# Altium footprint library PH2.0.PcbLib: 41 footprints (part 2 of 3)
Each footprint in its own frame and in the unit in brackets; x right, y up, seen from the top. Pads: shape width x height; smd on the part's side, far side on the other; paste and mask are expansions set on the pad; w line width, h text height; cw(c..) or ccw(c..) is an arc to the next point about the centre after c.
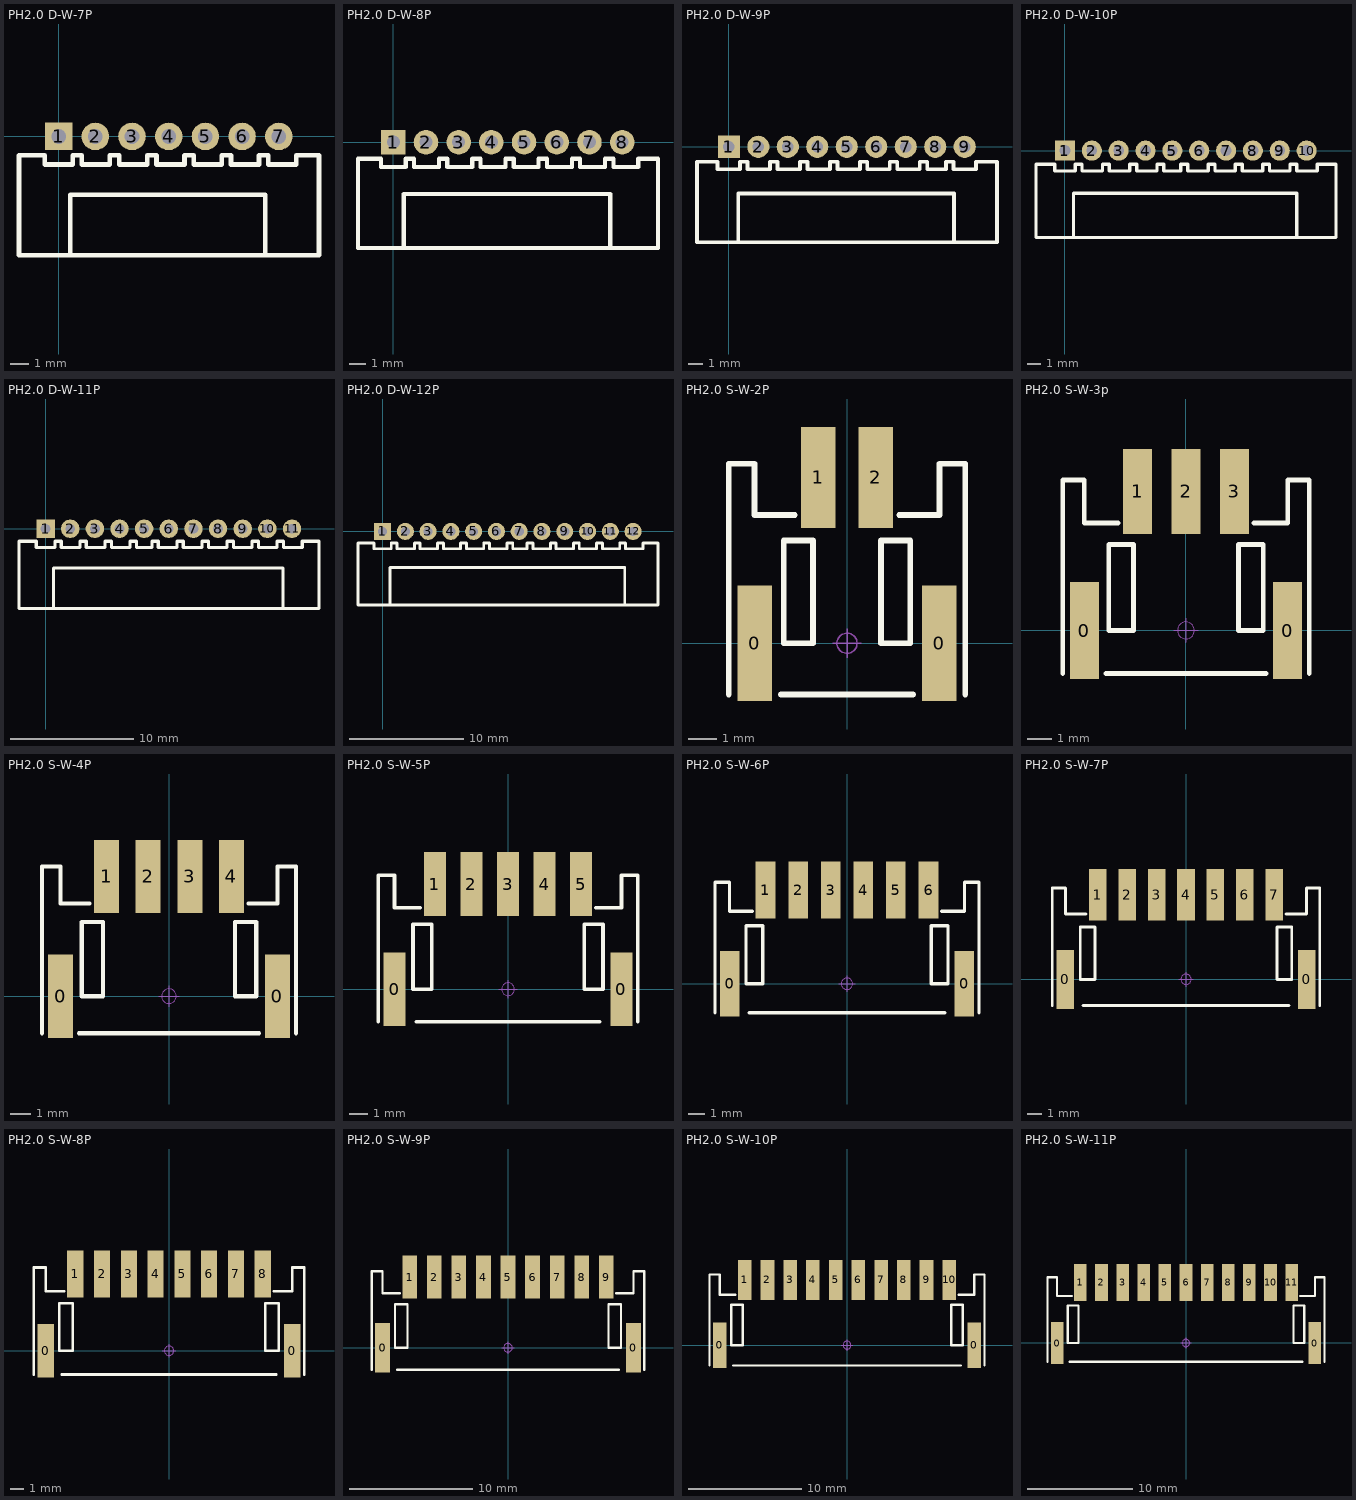
[diagram p1: the footprints below, top view; thin cyan lines are the x and y axes]

## PH2.0 D-W-7P [mm] "接插件/1A"
height 10
pads (7):
  rect 1.5x1.5 hole 0.8: 1(0,0)
  round 1.5 hole 0.8: 2(2,0) 3(4,0) 4(6,0) 5(8,0) 6(10,0) 7(12,0)
Top Overlay:
  lines w0.254: 3.27,-6.477 14.191,-6.477 14.191,-1.016 12.954,-1.016 12.954,-1.524 11.43,-1.524 11.43,-1.016 10.922,-1.016 10.922,-1.524 9.398,-1.524 9.398,-1.016 8.89,-1.016 8.89,-1.524 7.366,-1.524 7.366,-1.016 6.858,-1.016 6.858,-1.524 6.604,-1.524 5.334,-1.524 5.334,-1.016 4.826,-1.016 4.826,-1.524 3.302,-1.524 3.302,-1.016 2.794,-1.016 2.794,-1.524 1.27,-1.524 1.27,-1.016 0.762,-1.016 0.762,-1.524 -0.762,-1.524 -0.762,-1.016 -2.159,-1.016 -2.159,-6.477 0.635,-6.477 ; 0.635,-6.477 11.27,-6.477 11.27,-3.175 0.635,-3.175 0.635,-6.477
3D body: height 4.72, standoff -2.68, extent -1.95,-6.3 13.95,0.3

## PH2.0 D-W-8P [mm] "接插件/1A"
height 10
pads (8):
  rect 1.5x1.5 hole 0.8: 1(0,0)
  round 1.5 hole 0.8: 2(2,0) 3(4,0) 4(6,0) 5(8,0) 6(10,0) 7(12,0) 8(14,0)
Top Overlay:
  lines w0.254: 3.27,-6.477 16.191,-6.477 16.191,-1.016 14.986,-1.016 14.986,-1.524 13.462,-1.524 13.462,-1.016 12.954,-1.016 12.954,-1.524 11.43,-1.524 11.43,-1.016 10.922,-1.016 10.922,-1.524 9.398,-1.524 9.398,-1.016 8.89,-1.016 8.89,-1.524 7.366,-1.524 7.366,-1.016 6.858,-1.016 6.858,-1.524 5.334,-1.524 5.334,-1.016 4.826,-1.016 4.826,-1.524 3.302,-1.524 3.302,-1.016 2.794,-1.016 2.794,-1.524 1.27,-1.524 1.27,-1.016 0.762,-1.016 0.762,-1.524 -0.762,-1.524 -0.762,-1.016 -2.159,-1.016 -2.159,-6.477 0.635,-6.477 ; 11.27,-6.477 0.635,-6.477 ; 13.27,-6.477 13.27,-3.175 0.635,-3.175 0.635,-6.477
3D body: height 4.72, standoff -2.68, extent -1.95,-6.3 15.95,0.3

## PH2.0 D-W-9P [mm] "接插件/1A"
height 10
pads (9):
  rect 1.5x1.5 hole 0.8: 1(0,0)
  round 1.5 hole 0.8: 2(2,0) 3(4,0) 4(6,0) 5(8,0) 6(10,0) 7(12,0) 8(14,0) 9(16,0)
Top Overlay:
  lines w0.254: 3.27,-6.477 18.191,-6.477 18.191,-1.016 16.764,-1.016 16.764,-1.524 15.24,-1.524 15.24,-1.016 14.732,-1.016 14.732,-1.524 13.462,-1.524 13.462,-1.016 12.954,-1.016 12.954,-1.524 12.7,-1.524 11.43,-1.524 11.43,-1.016 10.922,-1.016 10.922,-1.524 9.398,-1.524 9.398,-1.016 8.89,-1.016 8.89,-1.524 7.366,-1.524 7.366,-1.016 6.858,-1.016 6.858,-1.524 5.334,-1.524 5.334,-1.016 4.826,-1.016 4.826,-1.524 3.302,-1.524 3.302,-1.016 2.794,-1.016 2.794,-1.524 1.27,-1.524 1.27,-1.016 0.762,-1.016 0.762,-1.524 -0.762,-1.524 -0.762,-1.016 -2.159,-1.016 -2.159,-6.477 0.635,-6.477 ; 11.27,-6.477 0.635,-6.477 ; 15.27,-6.477 15.27,-3.175 0.635,-3.175 0.635,-6.477
3D body: height 4.72, standoff -2.68, extent -1.95,-6.3 17.95,0.3

## PH2.0 D-W-10P [mm] "接插件/1A"
height 10
pads (10):
  rect 1.5x1.5 hole 0.8: 1(0,0)
  round 1.5 hole 0.8: 2(2,0) 3(4,0) 4(6,0) 5(8,0) 6(10,0) 7(12,0) 8(14,0) 9(16,0) 10(18,0)
Top Overlay:
  lines w0.254: 3.27,-6.477 20.191,-6.477 20.191,-1.016 18.796,-1.016 18.796,-1.524 17.272,-1.524 17.272,-1.016 16.764,-1.016 16.764,-1.524 15.24,-1.524 15.24,-1.016 14.732,-1.016 14.732,-1.524 13.208,-1.524 13.208,-1.016 12.7,-1.016 12.7,-1.524 11.176,-1.524 11.176,-1.016 10.668,-1.016 10.668,-1.524 9.144,-1.524 9.144,-1.016 8.636,-1.016 8.636,-1.524 7.366,-1.524 7.366,-1.016 6.858,-1.016 6.858,-1.524 5.334,-1.524 5.334,-1.016 4.826,-1.016 4.826,-1.524 3.302,-1.524 3.302,-1.016 2.794,-1.016 2.794,-1.524 1.27,-1.524 1.27,-1.016 0.762,-1.016 0.762,-1.524 -0.762,-1.524 -0.762,-1.016 -2.159,-1.016 -2.159,-6.477 0.635,-6.477 ; 11.27,-6.477 0.635,-6.477 ; 17.27,-6.477 17.27,-3.175 0.635,-3.175 0.635,-6.477
3D body: height 4.72, standoff -2.68, extent -1.95,-6.3 19.95,0.3

## PH2.0 D-W-11P [mm] "接插件/1A"
height 10
pads (11):
  rect 1.5x1.5 hole 0.8: 1(0,0)
  round 1.5 hole 0.8: 2(2,0) 3(4,0) 4(6,0) 5(8,0) 6(10,0) 7(12,0) 8(14,0) 9(16,0) 10(18,0) 11(20,0)
Top Overlay:
  lines w0.254: 3.27,-6.477 22.191,-6.477 22.191,-1.016 20.828,-1.016 20.828,-1.524 19.304,-1.524 19.304,-1.016 18.796,-1.016 18.796,-1.524 17.272,-1.524 17.272,-1.016 16.764,-1.016 16.764,-1.524 15.24,-1.524 15.24,-1.016 14.732,-1.016 14.732,-1.524 13.208,-1.524 13.208,-1.016 12.7,-1.016 12.7,-1.524 11.176,-1.524 11.176,-1.016 10.668,-1.016 10.668,-1.524 9.144,-1.524 9.144,-1.016 8.636,-1.016 8.636,-1.524 7.366,-1.524 7.366,-1.016 6.858,-1.016 6.858,-1.524 5.334,-1.524 5.334,-1.016 4.826,-1.016 4.826,-1.524 3.302,-1.524 3.302,-1.016 2.794,-1.016 2.794,-1.524 1.27,-1.524 1.27,-1.016 0.762,-1.016 0.762,-1.524 -0.762,-1.524 -0.762,-1.016 -2.159,-1.016 -2.159,-6.477 0.635,-6.477 ; 11.27,-6.477 0.635,-6.477 ; 19.27,-6.477 19.27,-3.175 0.635,-3.175 0.635,-6.477
3D body: height 4.72, standoff -2.68, extent -1.95,-6.3 21.95,0.3

## PH2.0 D-W-12P [mm] "接插件/1A"
height 10
pads (12):
  rect 1.5x1.5 hole 0.8: 1(0,0)
  round 1.5 hole 0.8: 2(2,0) 3(4,0) 4(6,0) 5(8,0) 6(10,0) 7(12,0) 8(14,0) 9(16,0) 10(18,0) 11(20,0) 12(22,0)
Top Overlay:
  lines w0.254: 3.27,-6.477 24.191,-6.477 24.191,-1.016 22.86,-1.016 22.86,-1.524 21.336,-1.524 21.336,-1.016 20.828,-1.016 20.828,-1.524 19.304,-1.524 19.304,-1.016 18.796,-1.016 18.796,-1.524 17.272,-1.524 17.272,-1.016 16.764,-1.016 16.764,-1.524 15.24,-1.524 15.24,-1.016 14.732,-1.016 14.732,-1.524 13.208,-1.524 13.208,-1.016 12.7,-1.016 12.7,-1.524 11.43,-1.524 11.43,-1.016 10.922,-1.016 10.922,-1.524 9.398,-1.524 9.398,-1.016 8.89,-1.016 8.89,-1.524 7.366,-1.524 7.366,-1.016 6.858,-1.016 6.858,-1.524 5.334,-1.524 5.334,-1.016 4.826,-1.016 4.826,-1.524 3.302,-1.524 3.302,-1.016 2.794,-1.016 2.794,-1.524 1.27,-1.524 1.27,-1.016 0.762,-1.016 0.762,-1.524 -0.762,-1.524 -0.762,-1.016 -2.159,-1.016 -2.159,-6.477 0.635,-6.477 ; 11.27,-6.477 0.635,-6.477 ; 21.27,-6.477 21.27,-3.175 0.635,-3.175 0.635,-6.477
3D body: height 4.72, standoff -2.68, extent -1.95,-6.3 23.95,0.3

## PH2.0 S-W-2P [mm] "长：8mm，宽：7.6mm，高：5.5mm"
pads (4):
  rect 1.2x4 smd: 0(-3.2,-0.006) 0(3.2,-0.006)
  rect 1.2x3.5 smd: 1(-1,5.744) 2(1,5.744)
Top Overlay:
  lines w0.2: -4.096,-1.778 -4.096,6.223 -3.207,6.223 -3.207,4.445 -1.81,4.445 ; -2.286,-1.778 2.286,-1.778 ; 1.81,4.445 3.207,4.445 3.207,6.223 4.096,6.223 4.096,-1.778 ; -2.191,0 -2.191,3.556 -1.175,3.556 -1.175,0 -2.191,0 ; 1.175,0 1.175,3.556 2.191,3.556 2.191,0 1.175,0
Mechanical 15:
  circle w0.05: c0,0 r0.35
  lines w0.05: -0.5,0 0.5,0 ; 0,-0.5 0,0.5
3D body: height 5.55, standoff 0.05, extent -4,-1.65 4,6.95

## PH2.0 S-W-3p [mm] "长：10mm，宽：7.6mm，高：5.5mm"
pads (5):
  rect 1.2x4 smd: 0(-4.2,-0.006) 0(4.2,-0.006)
  rect 1.2x3.5 smd: 1(-2,5.744) 2(0,5.744) 3(2,5.744)
Top Overlay:
  lines w0.2: -5.096,-1.778 -5.096,6.223 -4.207,6.223 -4.207,4.445 -2.81,4.445 ; -3.302,-1.778 3.302,-1.778 ; 2.81,4.445 4.207,4.445 4.207,6.223 5.096,6.223 5.096,-1.778 ; -3.191,0 -3.191,3.556 -2.175,3.556 -2.175,0 -3.191,0 ; 2.175,0 2.175,3.556 3.191,3.556 3.191,0 2.175,0
Mechanical 15:
  circle w0.05: c0,0 r0.35
  lines w0.05: -0.5,0 0.5,0 ; 0,-0.5 0,0.5
3D body: height 5.55, standoff 0.05, extent -5,-1.65 5,6.95

## PH2.0 S-W-4P [mm] "长：12mm，宽：7.6mm，高：5.5mm"
pads (6):
  rect 1.2x4 smd: 0(-5.2,-0.006) 0(5.2,-0.006)
  rect 1.2x3.5 smd: 1(-3,5.744) 2(-1,5.744) 3(1,5.744) 4(3,5.744)
Top Overlay:
  lines w0.2: -6.096,-1.778 -6.096,6.223 -5.207,6.223 -5.207,4.445 -3.81,4.445 ; -4.318,-1.778 4.318,-1.778 ; 3.81,4.445 5.207,4.445 5.207,6.223 6.096,6.223 6.096,-1.778 ; -4.191,0 -4.191,3.556 -3.175,3.556 -3.175,0 -4.191,0 ; 3.175,0 3.175,3.556 4.191,3.556 4.191,0 3.175,0
Mechanical 15:
  circle w0.05: c0,0 r0.35
  lines w0.05: -0.5,0 0.5,0 ; 0,-0.5 0,0.5
3D body: height 5.55, standoff 0.05, extent -6,-1.65 6,6.95

## PH2.0 S-W-5P [mm] "长：14mm，宽：7.6mm，高：5.5mm"
pads (7):
  rect 1.2x4 smd: 0(-6.2,-0.006) 0(6.2,-0.006)
  rect 1.2x3.5 smd: 1(-4,5.744) 2(-2,5.744) 3(0,5.744) 4(2,5.744) 5(4,5.744)
Top Overlay:
  lines w0.2: -7.096,-1.778 -7.096,6.223 -6.207,6.223 -6.207,4.445 -4.81,4.445 ; -5,-1.778 5,-1.778 ; 4.81,4.445 6.207,4.445 6.207,6.223 7.096,6.223 7.096,-1.778 ; -5.191,0 -5.191,3.556 -4.175,3.556 -4.175,0 -5.191,0 ; 4.175,0 4.175,3.556 5.191,3.556 5.191,0 4.175,0
Mechanical 15:
  circle w0.05: c0,0 r0.35
  lines w0.05: -0.5,0 0.5,0 ; 0,-0.5 0,0.5
3D body: height 5.55, standoff 0.05, extent -7,-1.65 7,6.95

## PH2.0 S-W-6P [mm] "长：16mm，宽：7.6mm，高：5.5mm"
pads (8):
  rect 1.2x4 smd: 0(-7.2,-0.006) 0(7.2,-0.006)
  rect 1.2x3.5 smd: 1(-5,5.744) 2(-3,5.744) 3(-1,5.744) 4(1,5.744) 5(3,5.744) 6(5,5.744)
Top Overlay:
  lines w0.2: -8.096,-1.778 -8.096,6.223 -7.207,6.223 -7.207,4.445 -5.81,4.445 ; -6,-1.778 6,-1.778 ; 5.81,4.445 7.207,4.445 7.207,6.223 8.096,6.223 8.096,-1.778 ; -6.191,0 -6.191,3.556 -5.175,3.556 -5.175,0 -6.191,0 ; 5.175,0 5.175,3.556 6.191,3.556 6.191,0 5.175,0
Mechanical 15:
  circle w0.05: c0,0 r0.35
  lines w0.05: -0.5,0 0.5,0 ; 0,-0.5 0,0.5
3D body: height 5.55, standoff 0.05, extent -8,-1.65 8,6.95

## PH2.0 S-W-7P [mm] "长：18mm，宽：7.6mm，高：5.5mm"
pads (9):
  rect 1.2x4 smd: 0(-8.2,-0.006) 0(8.2,-0.006)
  rect 1.2x3.5 smd: 1(-6,5.744) 2(-4,5.744) 3(-2,5.744) 4(0,5.744) 5(2,5.744) 6(4,5.744) 7(6,5.744)
Top Overlay:
  lines w0.2: -9.096,-1.778 -9.096,6.223 -8.207,6.223 -8.207,4.445 -6.81,4.445 ; -7,-1.778 7,-1.778 ; 6.81,4.445 8.207,4.445 8.207,6.223 9.096,6.223 9.096,-1.778 ; -7.191,0 -7.191,3.556 -6.175,3.556 -6.175,0 -7.191,0 ; 6.175,0 6.175,3.556 7.191,3.556 7.191,0 6.175,0
Mechanical 15:
  circle w0.05: c0,0 r0.35
  lines w0.05: -0.5,0 0.5,0 ; 0,-0.5 0,0.5
3D body: height 5.55, standoff 0.05, extent -9,-1.65 9,6.95

## PH2.0 S-W-8P [mm] "长：20mm，宽：7.6mm，高：5.5mm"
pads (10):
  rect 1.2x4 smd: 0(-9.2,-0.006) 0(9.2,-0.006)
  rect 1.2x3.5 smd: 1(-7,5.744) 2(-5,5.744) 3(-3,5.744) 4(-1,5.744) 5(1,5.744) 6(3,5.744) 7(5,5.744) 8(7,5.744)
Top Overlay:
  lines w0.2: -10.096,-1.778 -10.096,6.223 -9.207,6.223 -9.207,4.445 -7.81,4.445 ; -8,-1.778 8,-1.778 ; 7.81,4.445 9.207,4.445 9.207,6.223 10.096,6.223 10.096,-1.778 ; -8.191,0 -8.191,3.556 -7.175,3.556 -7.175,0 -8.191,0 ; 7.175,0 7.175,3.556 8.191,3.556 8.191,0 7.175,0
Mechanical 15:
  circle w0.05: c0,0 r0.35
  lines w0.05: -0.5,0 0.5,0 ; 0,-0.5 0,0.5
3D body: height 5.55, standoff 0.05, extent -10,-1.65 10,6.95

## PH2.0 S-W-9P [mm] "长：22mm，宽：7.6mm，高：5.5mm"
pads (11):
  rect 1.2x4 smd: 0(-10.2,-0.006) 0(10.2,-0.006)
  rect 1.2x3.5 smd: 1(-8,5.744) 2(-6,5.744) 3(-4,5.744) 4(-2,5.744) 5(0,5.744) 6(2,5.744) 7(4,5.744) 8(6,5.744) 9(8,5.744)
Top Overlay:
  lines w0.2: -11.096,-1.778 -11.096,6.223 -10.207,6.223 -10.207,4.445 -8.81,4.445 ; -9,-1.778 9,-1.778 ; 8.81,4.445 10.207,4.445 10.207,6.223 11.096,6.223 11.096,-1.778 ; -9.191,0 -9.191,3.556 -8.175,3.556 -8.175,0 -9.191,0 ; 8.175,0 8.175,3.556 9.191,3.556 9.191,0 8.175,0
Mechanical 15:
  circle w0.05: c0,0 r0.35
  lines w0.05: -0.5,0 0.5,0 ; 0,-0.5 0,0.5
3D body: height 5.55, standoff 0.05, extent -11,-1.65 11,6.95

## PH2.0 S-W-10P [mm] "长：24mm，宽：7.6mm，高：5.5mm"
pads (12):
  rect 1.2x4 smd: 0(-11.2,-0.006) 0(11.2,-0.006)
  rect 1.2x3.5 smd: 1(-9,5.744) 2(-7,5.744) 3(-5,5.744) 4(-3,5.744) 5(-1,5.744) 6(1,5.744) 7(3,5.744) 8(5,5.744) 9(7,5.744) 10(9,5.744)
Top Overlay:
  lines w0.2: -12.096,-1.778 -12.096,6.223 -11.207,6.223 -11.207,4.445 -9.81,4.445 ; -10,-1.778 10,-1.778 ; 9.81,4.445 11.207,4.445 11.207,6.223 12.096,6.223 12.096,-1.778 ; -10.191,0 -9.175,0 -9.175,3.556 -10.191,3.556 -10.191,0 ; 9.175,0 10.191,0 10.191,3.556 9.175,3.556 9.175,0
Mechanical 15:
  circle w0.05: c0,0 r0.35
  lines w0.05: -0.5,0 0.5,0 ; 0,-0.5 0,0.5
3D body: height 5.55, standoff 0.05, extent -12,-1.65 12,6.95

## PH2.0 S-W-11P [mm] "长：26mm，宽：7.6mm，高：5.5mm"
pads (13):
  rect 1.2x4 smd: 0(-12.2,-0.006) 0(12.2,-0.006)
  rect 1.2x3.5 smd: 1(-10,5.744) 2(-8,5.744) 3(-6,5.744) 4(-4,5.744) 5(-2,5.744) 6(0,5.744) 7(2,5.744) 8(4,5.744) 9(6,5.744) 10(8,5.744) 11(10,5.744)
Top Overlay:
  lines w0.2: -13.096,-1.778 -13.096,6.223 -12.207,6.223 -12.207,4.445 -10.81,4.445 ; -11,-1.778 11,-1.778 ; 10.81,4.445 12.207,4.445 12.207,6.223 13.096,6.223 13.096,-1.778 ; -11.191,0 -11.191,3.556 -10.175,3.556 -10.175,0 -11.191,0 ; 10.175,0 10.175,3.556 11.191,3.556 11.191,0 10.175,0
Mechanical 15:
  circle w0.05: c0,0 r0.35
  lines w0.05: -0.5,0 0.5,0 ; 0,-0.5 0,0.5
3D body: height 5.55, standoff 0.05, extent -13,-1.65 13,6.95